# EAGLE library part TCA9406DCU (library Explore-Labs-EAGLE-Library)
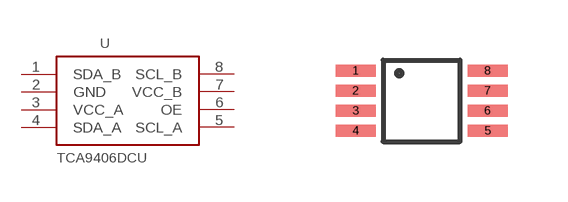
[diagram p7: symbol with the pads of VSSOP8; footprint VSSOP8]

Designator prefix -

## TCA9406DCU  [VSSOP8]
1  SDA_B
2  GND  pwr
3  VCC_A  pwr
4  SDA_A
5  SCL_A
6  OE  in
7  VCC_B  pwr
8  SCL_B

## Footprint VSSOP8 (pad centres in mm)
smd 1 x 0.3: 1 -1.65,0.75; 2 -1.65,0.25; 3 -1.65,-0.25; 4 -1.65,-0.75; 5 1.65,-0.75; 6 1.65,-0.25; 7 1.65,0.25; 8 1.65,0.75